# EAGLE library part CONN,6POS (library 0_MyLIB)
PIN HEADER
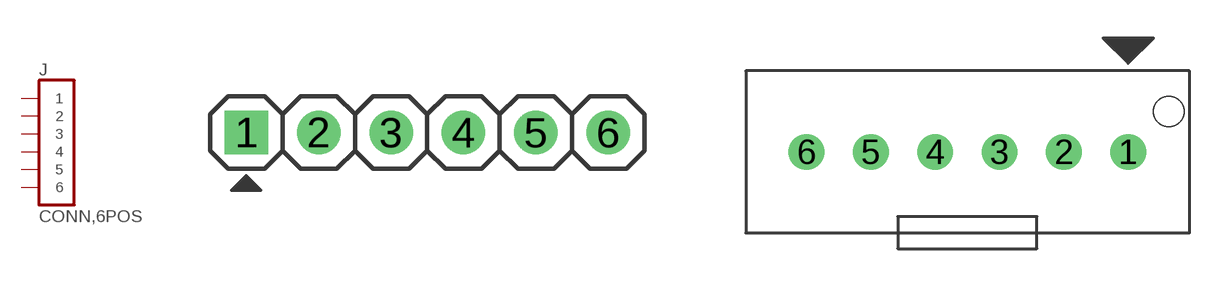
[diagram p3: symbol with the pads of HDR,PIN,1X6; footprints HDR,PIN,1X6, JST-XA-CONN-6POS]

Designator prefix J

## CONN,6POS  [HDR,PIN,1X6]
1  1  pas
2  2  pas
3  3  pas
4  4  pas
5  5  pas
6  6  pas

## CONN,6POSB06B0XASK-1-A  [JST-XA-CONN-6POS]
Pads as for HDR,PIN,1X6

## Footprint HDR,PIN,1X6 (pad centres in mm)
PIN HEADER
drill 1.016 square: 1 0,0
drill 1.016: 2 2.54,0; 3 5.08,0; 4 7.62,0; 5 10.16,0; 6 12.7,0

## Footprint JST-XA-CONN-6POS (pad centres in mm)
drill 0.9: 1 6.35,0; 2 3.81,0; 3 1.27,0; 4 -1.27,0; 5 -3.81,0; 6 -6.35,0
hole 1.2 at 7.95,1.6